# Altium integrated library 6N137S.IntLib: 1 symbol
Pins are listed as number, name and electrical type; pins without a type are passive.

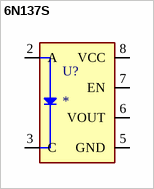
[diagram p0: symbol 6N137S]

## 6N137S
designator U?
Logic Output Optoisolator 15MBd Open Collector 5000Vrms 1 Channel 10kV/Âµs CMTI 8-SMD; MF: Lite-On Inc.; MP: 6N137S; SnapEDA_Link: https://www.snapeda.com/parts/6N137S/Lite-On/view-part/?ref=snap; Package: SMD-8 Lite-On Inc.; Value: *; Check_prices: https://www.snapeda.com/parts/6N137S/Lite-On/view-part/?ref=eda
footprint 8-SMD
pins: 2 A (io), 3 C (io), 5 GND (io), 6 VOUT (io), 7 EN (io), 8 VCC (io)